# EAGLE library part SN74LVC1T45 (library ModernDevice)
Single-bit dual-supply bus transceiver with configurable voltage translation and 3-state outputs
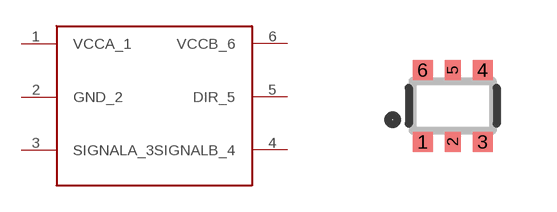
[diagram p87: symbol with the pads of SOT363; footprint SOT363]

Designator prefix -

## SN74LVC1T45SOT363  [SOT363]
1  VCCA_1  pwr
2  GND_2  pwr
3  SIGNALA_3
4  SIGNALB_4
5  DIR_5
6  VCCB_6  pwr

## Footprint SOT363 (pad centres in mm)
Source: http://www.nxp.com/documents/data_sheet/2N7002PS.pdf
smd 0.5 x 0.5: 1 -0.75,-0.9; 3 0.75,-0.9; 4 0.75,0.9; 6 -0.75,0.9
smd 0.4 x 0.5: 2 0,-0.9; 5 0,0.9